# EAGLE library part 0781715006 (library DogSensing)
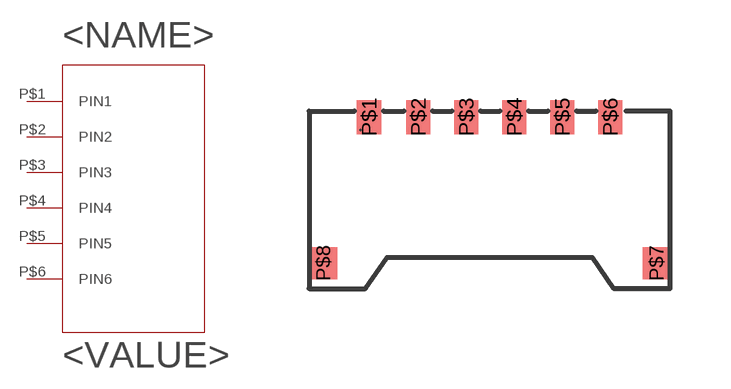
[diagram p2: symbol with the pads of 0781715006; footprint 0781715006]

Designator prefix -

## 0781715006  [0781715006]
P$1  PIN1
P$2  PIN2
P$3  PIN3
P$4  PIN4
P$5  PIN5
P$6  PIN6

## Footprint 0781715006 (pad centres in mm)
smd 0.6 x 0.85: P$1 2.07,1.14; P$2 3.3,1.14; P$3 4.5,1.14; P$4 5.7,1.14; P$5 6.9,1.14; P$6 8.1,1.14
smd 0.7 x 0.8: P$7 9.26,-2.51; P$8 0.93,-2.51